# EAGLE library part ATTINY15L (library atmel)
8-bit AVR tiny Microcontroller Status obsolete / discontinued ATtiny15L General purpose working registers 32 Programm flash memory 1 kB EEPROM 64 B 8-bit Timer/Counter 2 8-bit PWM 1 (150 kHz) ADC channels 4 ADC resolution 10 bit AC 1 Watchdog 1 General purpose I/O 6 External interrupts 6 Operating voltage 2.7 ... 5.5 V Speed grade 0 ... 1.6 MHz Clock options interna 1.6 MHzl oszilator internal 25.6 MHz clock generator (PLL) for timer/counter
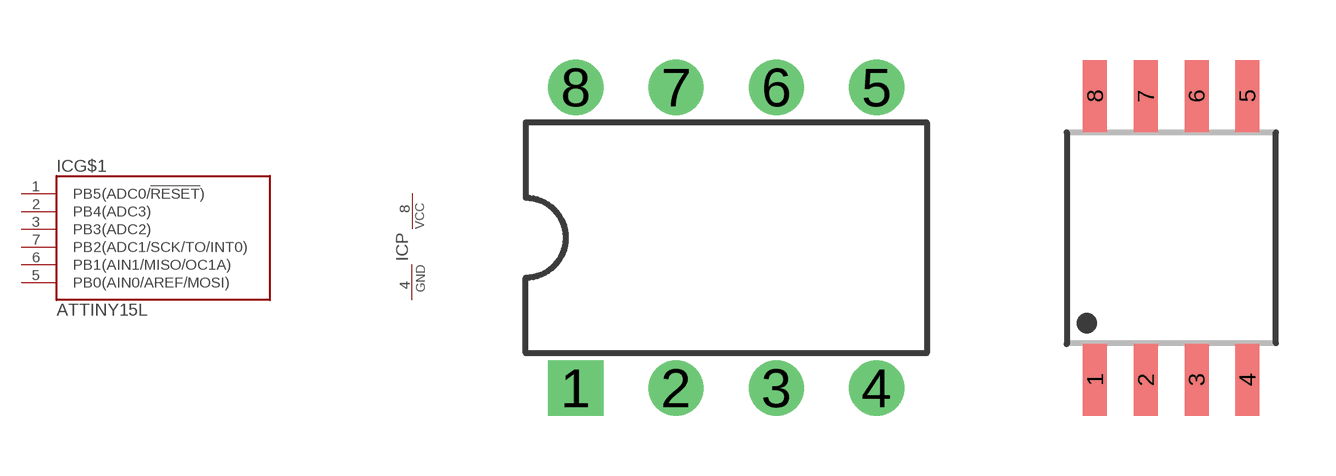
[diagram p71: symbol with the pads of DIL08; footprints DIL08, 8S2]

Designator prefix IC; gates G$1=TINY15L P=PWR

## ATTINY15L-1P  [DIL08]
1  G$1:PB5(ADC0/!RESET!)
2  G$1:PB4(ADC3)
3  G$1:PB3(ADC2)
4  P:GND  pwr
5  G$1:PB0(AIN0/AREF/MOSI)
6  G$1:PB1(AIN1/MISO/OC1A)
7  G$1:PB2(ADC1/SCK/TO/INT0)
8  P:VCC  pwr

## ATTINY15L-1S  [8S2]
Pads as for DIL08

## Footprint DIL08 (pad centres in mm)
DIL package, pin row distance 300mil
drill 0.8 pad 1.4 square: 1 -3.81,-3.81
drill 0.8 pad 1.4: 2 -1.27,-3.81; 3 1.27,-3.81; 4 3.81,-3.81; 5 3.81,3.81; 6 1.27,3.81; 7 -1.27,3.81; 8 -3.81,3.81

## Footprint 8S2 (pad centres in mm)
8 leads Plastic Small Outline Package, 208mil body width, 50mil lead pitch JEDEC: Atmel: 8S2 Texas Instruments: PS (R-PDSO-G8)
smd 0.6 x 1.8: 1 -1.905,-3.55; 2 -0.635,-3.55; 3 0.635,-3.55; 4 1.905,-3.55; 5 1.905,3.55; 6 0.635,3.55; 7 -0.635,3.55; 8 -1.905,3.55